# Altium footprint library EL-TCaseB1210(3528-21).PcbLib: 1 footprints
Each footprint in its own frame and in the unit in brackets; x right, y up, seen from the top. Pads: shape width x height; smd on the part's side, far side on the other; paste and mask are expansions set on the pad; w line width, h text height; cw(c..) or ccw(c..) is an arc to the next point about the centre after c.
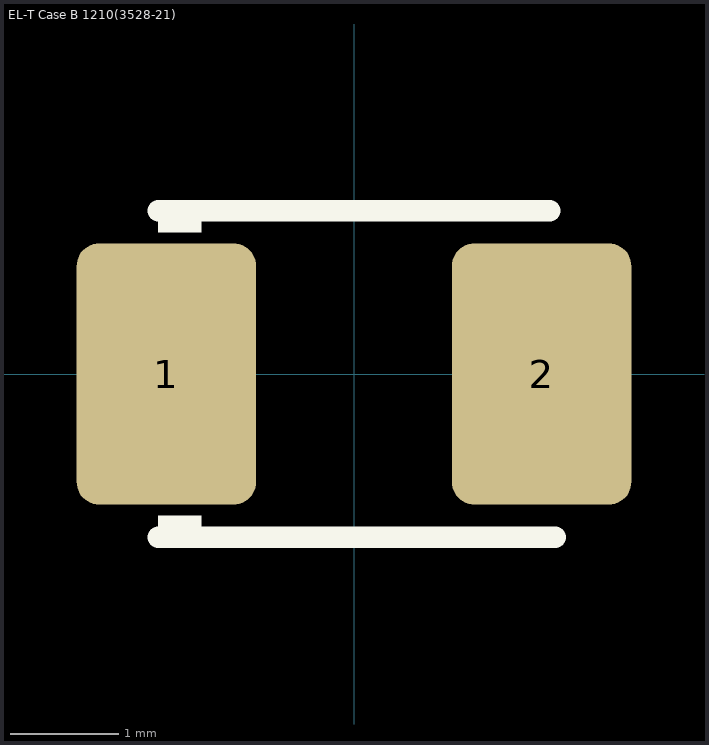
[diagram p0: the footprint, top view; thin cyan lines are the x and y axes]

## EL-T Case B 1210(3528-21) [mm] "Capacitor, SM Tantalum; Body 3.5 x 2.1 mm (LxW typ)"
height 2.1
pads (2):
  rrect25% 1.65x2.4 smd: 1(-1.725,0) 2(1.725,0)
Top Overlay:
  rectangle: -1.8,1.3 -1.4,1.4
  rectangle: -1.8,-1.4 -1.4,-1.3
  lines w0.2: -1.8,-1.5 1.85,-1.5 ; -1.8,1.5 1.8,1.5
3D body "EL-T SMD Case B 1210(3228-2.1).STEP": height 1.91, standoff 0, extent -1.746,-1.4 1.746,1.4